# Altium integrated library HARTING DIN 41612 Type B.IntLib: 28 symbols
Pins are listed as number, name and electrical type; pins without a type are passive.

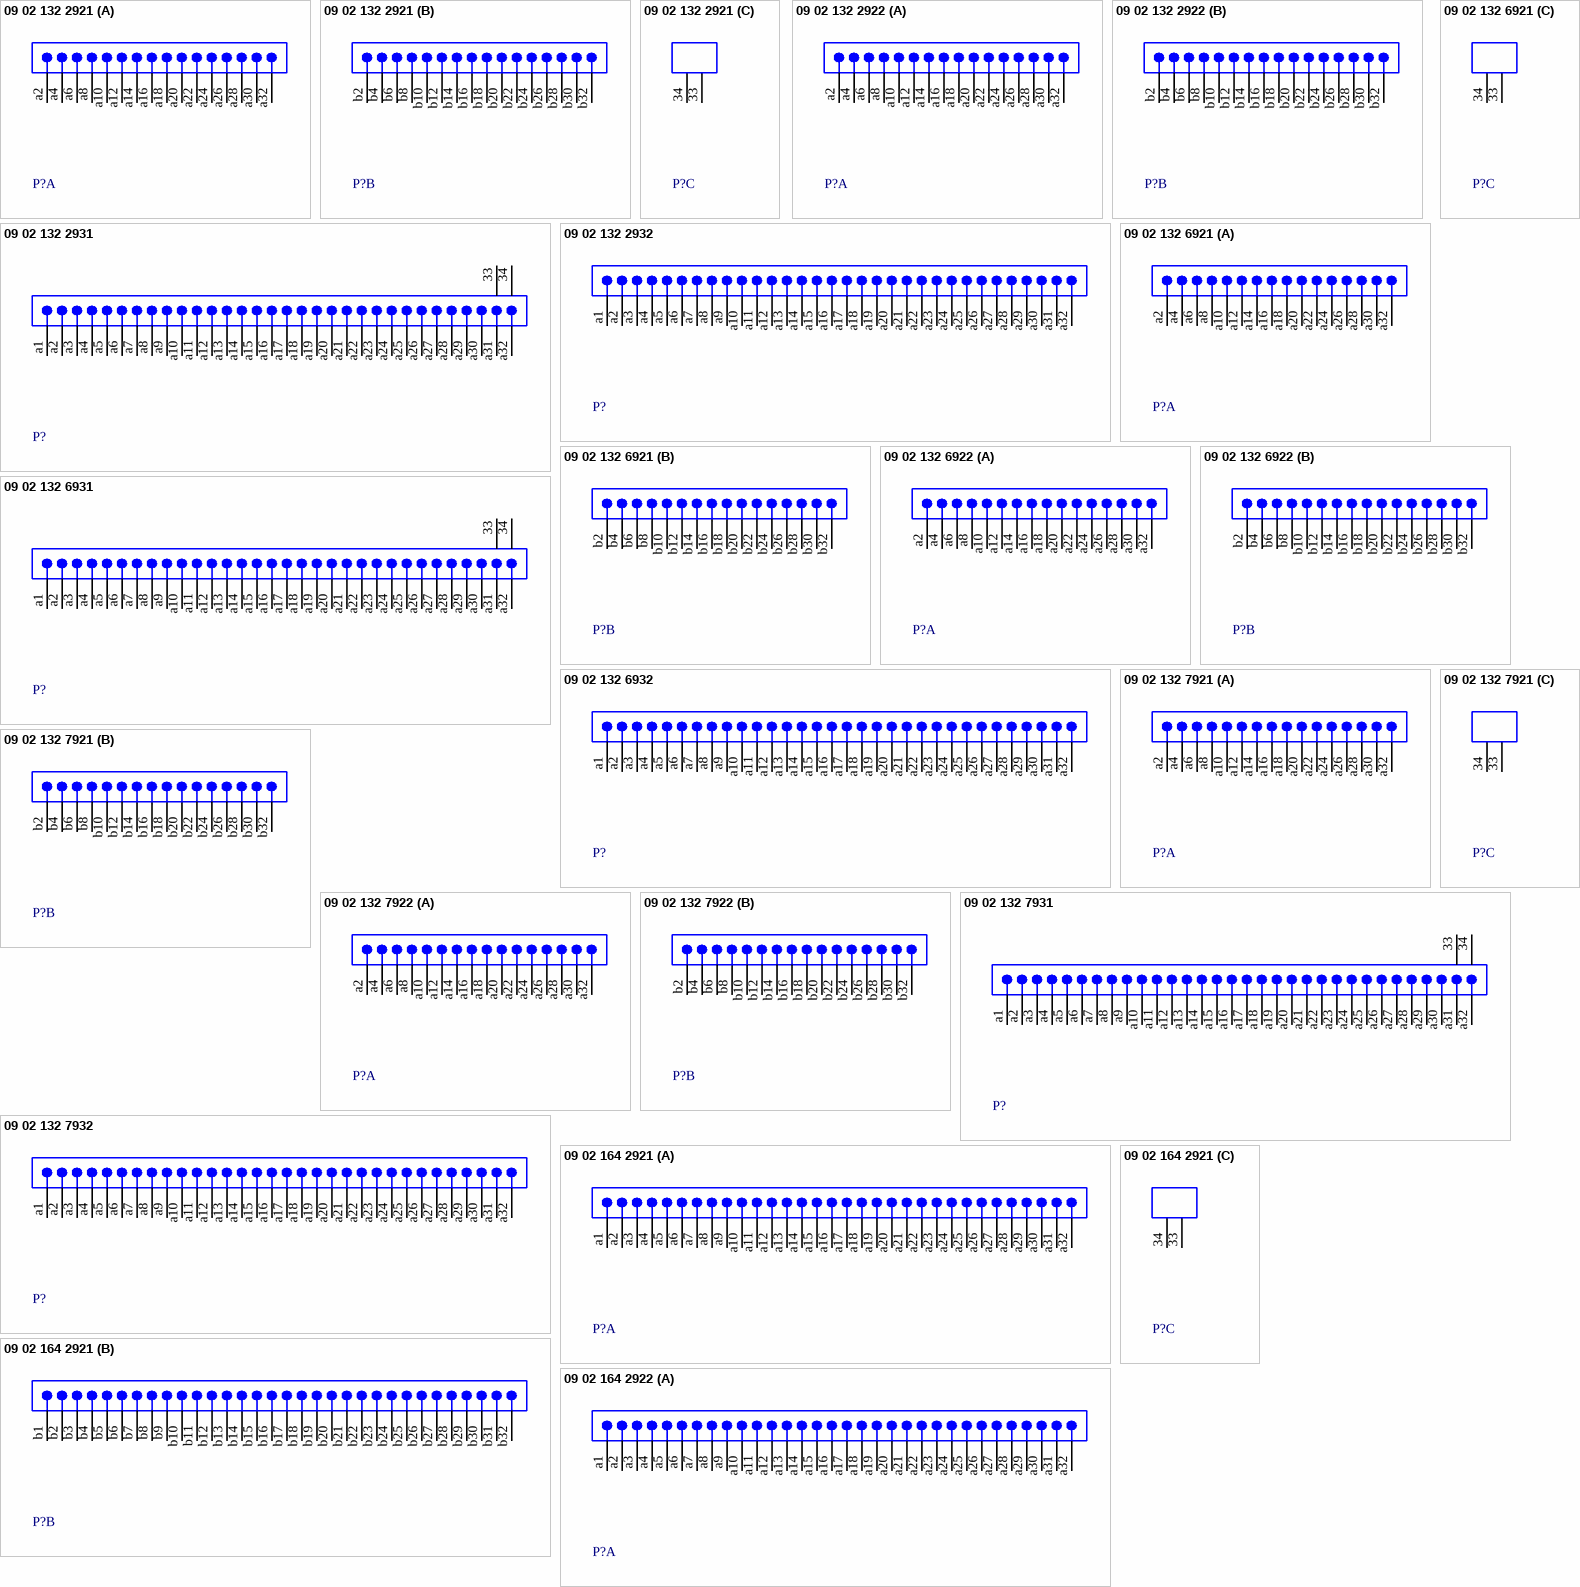
[diagram p0: symbols 09 02 132 2921 to 09 02 164 2922]

## 09 02 132 2921
designator P?
Eurocard DIN 41612, Type B, 32 Position, Rows a+b, Performance level 1, Male, Lead 3.0 mm, Pitch 2.54 mm; DrillSize: Corresponds to nominal value.; Published: 6-Oct-2005; DatasheetDocument: 02-Jun-2003; PackageDocument: 11-Jul-2000; PackageReference: 0902132x921; Publisher: Altium Limited; ComponentLink1Description: Manufacturer Link; ComponentLink1URL: http://www.harting.com/; ComponentLink2Description: Pinout Specification; ComponentLink2URL: 0902132x921; ComponentLink3Description: Packaging Specification; ComponentLink3URL: http://www.harkis.harting.com/_gds/pdf/TB_0902132x921_BL01_R28027.pdf
footprint 0902132x921 (Connector; DIN 41612, Type B, Thru-Hole; Rows a+b, 32 Position; Right Angle)
signal-integrity model DIN 41612
part A pins: a2, a4, a6, a8, a10, a12, a14, a16, a18, a20, a22, a24, a26, a28, a30, a32
part B pins: b2, b4, b6, b8, b10, b12, b14, b16, b18, b20, b22, b24, b26, b28, b30, b32
part C pins: 33 MH1 "Mounting Fixture", 34 MH2 "Mounting Fixture"

## 09 02 132 2922
designator P?
Eurocard DIN 41612, Type B, 32 Position, Rows a+b, Performance level 1, Male, Lead 3.0 mm, Pitch 2.54 mm; DrillSize: Corresponds to nominal value.; Published: 6-Oct-2005; DatasheetDocument: 02-Jun-2003; PackageDocument: 24-Jul-2000; PackageReference: 0902132x922; Publisher: Altium Limited; ComponentLink1Description: Manufacturer Link; ComponentLink1URL: http://www.harting.com/; ComponentLink2Description: Pinout Specification; ComponentLink2URL: 0902132x922; ComponentLink3Description: Packaging Specification; ComponentLink3URL: http://www.harkis.harting.com/_gds/pdf/TB_0902132x922_BL01_R28028.pdf
footprint 0902132x922 (Connector; DIN 41612, Type B, Thru-Hole; Rows a+b, 32 Position; Vertical, No Mounting Fixture)
signal-integrity model DIN 41612
part A pins: a2, a4, a6, a8, a10, a12, a14, a16, a18, a20, a22, a24, a26, a28, a30, a32
part B pins: b2, b4, b6, b8, b10, b12, b14, b16, b18, b20, b22, b24, b26, b28, b30, b32

## 09 02 132 2931
designator P?
Eurocard DIN 41612, Type B, 32 Position, Row a, Performance level 1, Male, Lead 3.0 mm, Pitch 2.54 mm; DrillSize: Corresponds to nominal value.; Published: 6-Oct-2005; DatasheetDocument: 02-Jun-2003; PackageDocument: 11-Jul-2000; PackageReference: 0902132x931; Publisher: Altium Limited; ComponentLink1Description: Manufacturer Link; ComponentLink1URL: http://www.harting.com/; ComponentLink2Description: Pinout Specification; ComponentLink2URL: 0902132x931; ComponentLink3Description: Packaging Specification; ComponentLink3URL: http://www.harkis.harting.com/_gds/pdf/TB_0902132x931_BL01_R28027.pdf
footprint 0902132x931 (Connector; DIN 41612, Type B, Thru-Hole; Row a, 32 Position; Right Angle)
signal-integrity model DIN 41612
pins: 33 MH1 "Mounting Fixture", 34 MH2 "Mounting Fixture", a1, a2, a3, a4, a5, a6, a7, a8, a9, a10, a11, a12, a13, a14, a15, a16, a17, a18, a19, a20, a21, a22, a23, a24, a25, a26, a27, a28, a29, a30, a31, a32

## 09 02 132 2932
designator P?
Eurocard DIN 41612, Type B, 32 Position, Row a, Performance level 1, Male, Lead 3.0 mm, Pitch 2.54 mm; DrillSize: Corresponds to nominal value.; Published: 6-Oct-2005; DatasheetDocument: 02-Jun-2003; PackageDocument: 24-Jul-2000; PackageReference: 0902132x932; Publisher: Altium Limited; ComponentLink1Description: Manufacturer Link; ComponentLink1URL: http://www.harting.com/; ComponentLink2Description: Pinout Specification; ComponentLink2URL: 0902132x932; ComponentLink3Description: Packaging Specification; ComponentLink3URL: http://www.harkis.harting.com/_gds/pdf/TB_0902132x932_BL01_R28028.pdf
footprint 0902132x932 (Connector; DIN 41612, Type B, Thru-Hole; Row a, 32 Position; Vertical, No Mounting Fixture)
signal-integrity model DIN 41612
pins: a1, a2, a3, a4, a5, a6, a7, a8, a9, a10, a11, a12, a13, a14, a15, a16, a17, a18, a19, a20, a21, a22, a23, a24, a25, a26, a27, a28, a29, a30, a31, a32

## 09 02 132 6921
designator P?
Eurocard DIN 41612, Type B, 32 Position, Rows a+b, Performance level 2, Male, Lead 3.0 mm, Pitch 2.54 mm; DrillSize: Corresponds to nominal value.; Published: 6-Oct-2005; DatasheetDocument: 02-Jun-2003; PackageDocument: 11-Jul-2000; PackageReference: 0902132x921; Publisher: Altium Limited; ComponentLink1Description: Manufacturer Link; ComponentLink1URL: http://www.harting.com/; ComponentLink2Description: Pinout Specification; ComponentLink2URL: 0902132x921; ComponentLink3Description: Packaging Specification; ComponentLink3URL: http://www.harkis.harting.com/_gds/pdf/TB_0902132x921_BL01_R28027.pdf
footprint 0902132x921 (Connector; DIN 41612, Type B, Thru-Hole; Rows a+b, 32 Position; Right Angle)
signal-integrity model DIN 41612
part A pins: a2, a4, a6, a8, a10, a12, a14, a16, a18, a20, a22, a24, a26, a28, a30, a32
part B pins: b2, b4, b6, b8, b10, b12, b14, b16, b18, b20, b22, b24, b26, b28, b30, b32
part C pins: 33 MH1 "Mounting Fixture", 34 MH2 "Mounting Fixture"

## 09 02 132 6922
designator P?
Eurocard DIN 41612, Type B, 32 Position, Rows a+b, Performance level 2, Male, Lead 3.0 mm, Pitch 2.54 mm; DrillSize: Corresponds to nominal value.; Published: 6-Oct-2005; DatasheetDocument: 02-Jun-2003; PackageDocument: 24-Jul-2000; PackageReference: 0902132x922; Publisher: Altium Limited; ComponentLink1Description: Manufacturer Link; ComponentLink1URL: http://www.harting.com/; ComponentLink2Description: Pinout Specification; ComponentLink2URL: 0902132x922; ComponentLink3Description: Packaging Specification; ComponentLink3URL: http://www.harkis.harting.com/_gds/pdf/TB_0902132x922_BL01_R28028.pdf
footprint 0902132x922 (Connector; DIN 41612, Type B, Thru-Hole; Rows a+b, 32 Position; Vertical, No Mounting Fixture)
signal-integrity model DIN 41612
part A pins: a2, a4, a6, a8, a10, a12, a14, a16, a18, a20, a22, a24, a26, a28, a30, a32
part B pins: b2, b4, b6, b8, b10, b12, b14, b16, b18, b20, b22, b24, b26, b28, b30, b32

## 09 02 132 6931
designator P?
Eurocard DIN 41612, Type B, 32 Position, Row a, Performance level 2, Male, Lead 3.0 mm, Pitch 2.54 mm; DrillSize: Corresponds to nominal value.; Published: 6-Oct-2005; DatasheetDocument: 02-Jun-2003; PackageDocument: 11-Jul-2000; PackageReference: 0902132x931; Publisher: Altium Limited; ComponentLink1Description: Manufacturer Link; ComponentLink1URL: http://www.harting.com/; ComponentLink2Description: Pinout Specification; ComponentLink2URL: 0902132x931; ComponentLink3Description: Packaging Specification; ComponentLink3URL: http://www.harkis.harting.com/_gds/pdf/TB_0902132x931_BL01_R28027.pdf
footprint 0902132x931 (Connector; DIN 41612, Type B, Thru-Hole; Row a, 32 Position; Right Angle)
signal-integrity model DIN 41612
pins: 33 MH1 "Mounting Fixture", 34 MH2 "Mounting Fixture", a1, a2, a3, a4, a5, a6, a7, a8, a9, a10, a11, a12, a13, a14, a15, a16, a17, a18, a19, a20, a21, a22, a23, a24, a25, a26, a27, a28, a29, a30, a31, a32

## 09 02 132 6932
designator P?
Eurocard DIN 41612, Type B, 32 Position, Row a, Performance level 2, Male, Lead 3.0 mm, Pitch 2.54 mm; DrillSize: Corresponds to nominal value.; Published: 6-Oct-2005; DatasheetDocument: 02-Jun-2003; PackageDocument: 24-Jul-2000; PackageReference: 0902132x932; Publisher: Altium Limited; ComponentLink1Description: Manufacturer Link; ComponentLink1URL: http://www.harting.com/; ComponentLink2Description: Pinout Specification; ComponentLink2URL: 0902132x932; ComponentLink3Description: Packaging Specification; ComponentLink3URL: http://www.harkis.harting.com/_gds/pdf/TB_0902132x932_BL01_R28028.pdf
footprint 0902132x932 (Connector; DIN 41612, Type B, Thru-Hole; Row a, 32 Position; Vertical, No Mounting Fixture)
signal-integrity model DIN 41612
pins: a1, a2, a3, a4, a5, a6, a7, a8, a9, a10, a11, a12, a13, a14, a15, a16, a17, a18, a19, a20, a21, a22, a23, a24, a25, a26, a27, a28, a29, a30, a31, a32

## 09 02 132 7921
designator P?
Eurocard DIN 41612, Type B, 32 Position, Rows a+b, Performance level 3, Male, Lead 3.0 mm, Pitch 2.54 mm; DrillSize: Corresponds to nominal value.; Published: 6-Oct-2005; DatasheetDocument: 02-Jun-2003; PackageDocument: 11-Jul-2000; PackageReference: 0902132x921; Publisher: Altium Limited; ComponentLink1Description: Manufacturer Link; ComponentLink1URL: http://www.harting.com/; ComponentLink2Description: Pinout Specification; ComponentLink2URL: 0902132x921; ComponentLink3Description: Packaging Specification; ComponentLink3URL: http://www.harkis.harting.com/_gds/pdf/TB_0902132x921_BL01_R28027.pdf
footprint 0902132x921 (Connector; DIN 41612, Type B, Thru-Hole; Rows a+b, 32 Position; Right Angle)
signal-integrity model DIN 41612
part A pins: a2, a4, a6, a8, a10, a12, a14, a16, a18, a20, a22, a24, a26, a28, a30, a32
part B pins: b2, b4, b6, b8, b10, b12, b14, b16, b18, b20, b22, b24, b26, b28, b30, b32
part C pins: 33 MH1 "Mounting Fixture", 34 MH2 "Mounting Fixture"

## 09 02 132 7922
designator P?
Eurocard DIN 41612, Type B, 32 Position, Rows a+b, Performance level 3, Male, Lead 3.0 mm, Pitch 2.54 mm; DrillSize: Corresponds to nominal value.; Published: 6-Oct-2005; DatasheetDocument: 02-Jun-2003; PackageDocument: 24-Jul-2000; PackageReference: 0902132x922; Publisher: Altium Limited; ComponentLink1Description: Manufacturer Link; ComponentLink1URL: http://www.harting.com/; ComponentLink2Description: Pinout Specification; ComponentLink2URL: 0902132x922; ComponentLink3Description: Packaging Specification; ComponentLink3URL: http://www.harkis.harting.com/_gds/pdf/TB_0902132x922_BL01_R28028.pdf
footprint 0902132x922 (Connector; DIN 41612, Type B, Thru-Hole; Rows a+b, 32 Position; Vertical, No Mounting Fixture)
signal-integrity model DIN 41612
part A pins: a2, a4, a6, a8, a10, a12, a14, a16, a18, a20, a22, a24, a26, a28, a30, a32
part B pins: b2, b4, b6, b8, b10, b12, b14, b16, b18, b20, b22, b24, b26, b28, b30, b32

## 09 02 132 7931
designator P?
Eurocard DIN 41612, Type B, 32 Position, Row a, Performance level 3, Male, Lead 3.0 mm, Pitch 2.54 mm; DrillSize: Corresponds to nominal value.; Published: 6-Oct-2005; DatasheetDocument: 02-Jun-2003; PackageDocument: 11-Jul-2000; PackageReference: 0902132x931; Publisher: Altium Limited; ComponentLink1Description: Manufacturer Link; ComponentLink1URL: http://www.harting.com/; ComponentLink2Description: Pinout Specification; ComponentLink2URL: 0902132x931; ComponentLink3Description: Packaging Specification; ComponentLink3URL: http://www.harkis.harting.com/_gds/pdf/TB_0902132x931_BL01_R28027.pdf
footprint 0902132x931 (Connector; DIN 41612, Type B, Thru-Hole; Row a, 32 Position; Right Angle)
signal-integrity model DIN 41612
pins: 33 MH1 "Mounting Fixture", 34 MH2 "Mounting Fixture", a1, a2, a3, a4, a5, a6, a7, a8, a9, a10, a11, a12, a13, a14, a15, a16, a17, a18, a19, a20, a21, a22, a23, a24, a25, a26, a27, a28, a29, a30, a31, a32

## 09 02 132 7932
designator P?
Eurocard DIN 41612, Type B, 32 Position, Row a, Performance level 3, Male, Lead 3.0 mm, Pitch 2.54 mm; DrillSize: Corresponds to nominal value.; Published: 6-Oct-2005; DatasheetDocument: 02-Jun-2003; PackageDocument: 24-Jul-2000; PackageReference: 0902132x932; Publisher: Altium Limited; ComponentLink1Description: Manufacturer Link; ComponentLink1URL: http://www.harting.com/; ComponentLink2Description: Pinout Specification; ComponentLink2URL: 0902132x932; ComponentLink3Description: Packaging Specification; ComponentLink3URL: http://www.harkis.harting.com/_gds/pdf/TB_0902132x932_BL01_R28028.pdf
footprint 0902132x932 (Connector; DIN 41612, Type B, Thru-Hole; Row a, 32 Position; Vertical, No Mounting Fixture)
signal-integrity model DIN 41612
pins: a1, a2, a3, a4, a5, a6, a7, a8, a9, a10, a11, a12, a13, a14, a15, a16, a17, a18, a19, a20, a21, a22, a23, a24, a25, a26, a27, a28, a29, a30, a31, a32

## 09 02 164 2921
designator P?
Eurocard DIN 41612, Type B, 64 Position, Rows a+b, Performance level 1, Male, Lead 3.0 mm, Pitch 2.54 mm; DrillSize: Corresponds to nominal value.; Published: 6-Oct-2005; DatasheetDocument: 02-Jun-2003; PackageDocument: 21-Jun-2000; PackageReference: 0902164x921; Publisher: Altium Limited; ComponentLink1Description: Manufacturer Link; ComponentLink1URL: http://www.harting.com/; ComponentLink2Description: Pinout Specification; ComponentLink2URL: 0902164x921; ComponentLink3Description: Packaging Specification; ComponentLink3URL: http://www.harkis.harting.com/_gds/pdf/TB_0902164x921_BL01_R28027.pdf
footprint 0902164x921 (Connector; DIN 41612, Type B, Thru-Hole; Rows a+b, 64 Position; Right Angle)
signal-integrity model DIN 41612
part A pins: a1, a2, a3, a4, a5, a6, a7, a8, a9, a10, a11, a12, a13, a14, a15, a16, a17, a18, a19, a20, a21, a22, a23, a24, a25, a26, a27, a28, a29, a30, a31, a32
part B pins: b1, b2, b3, b4, b5, b6, b7, b8, b9, b10, b11, b12, b13, b14, b15, b16, b17, b18, b19, b20, b21, b22, b23, b24, b25, b26, b27, b28, b29, b30, b31, b32
part C pins: 33 MH1 "Mounting Fixture", 34 MH2 "Mounting Fixture"

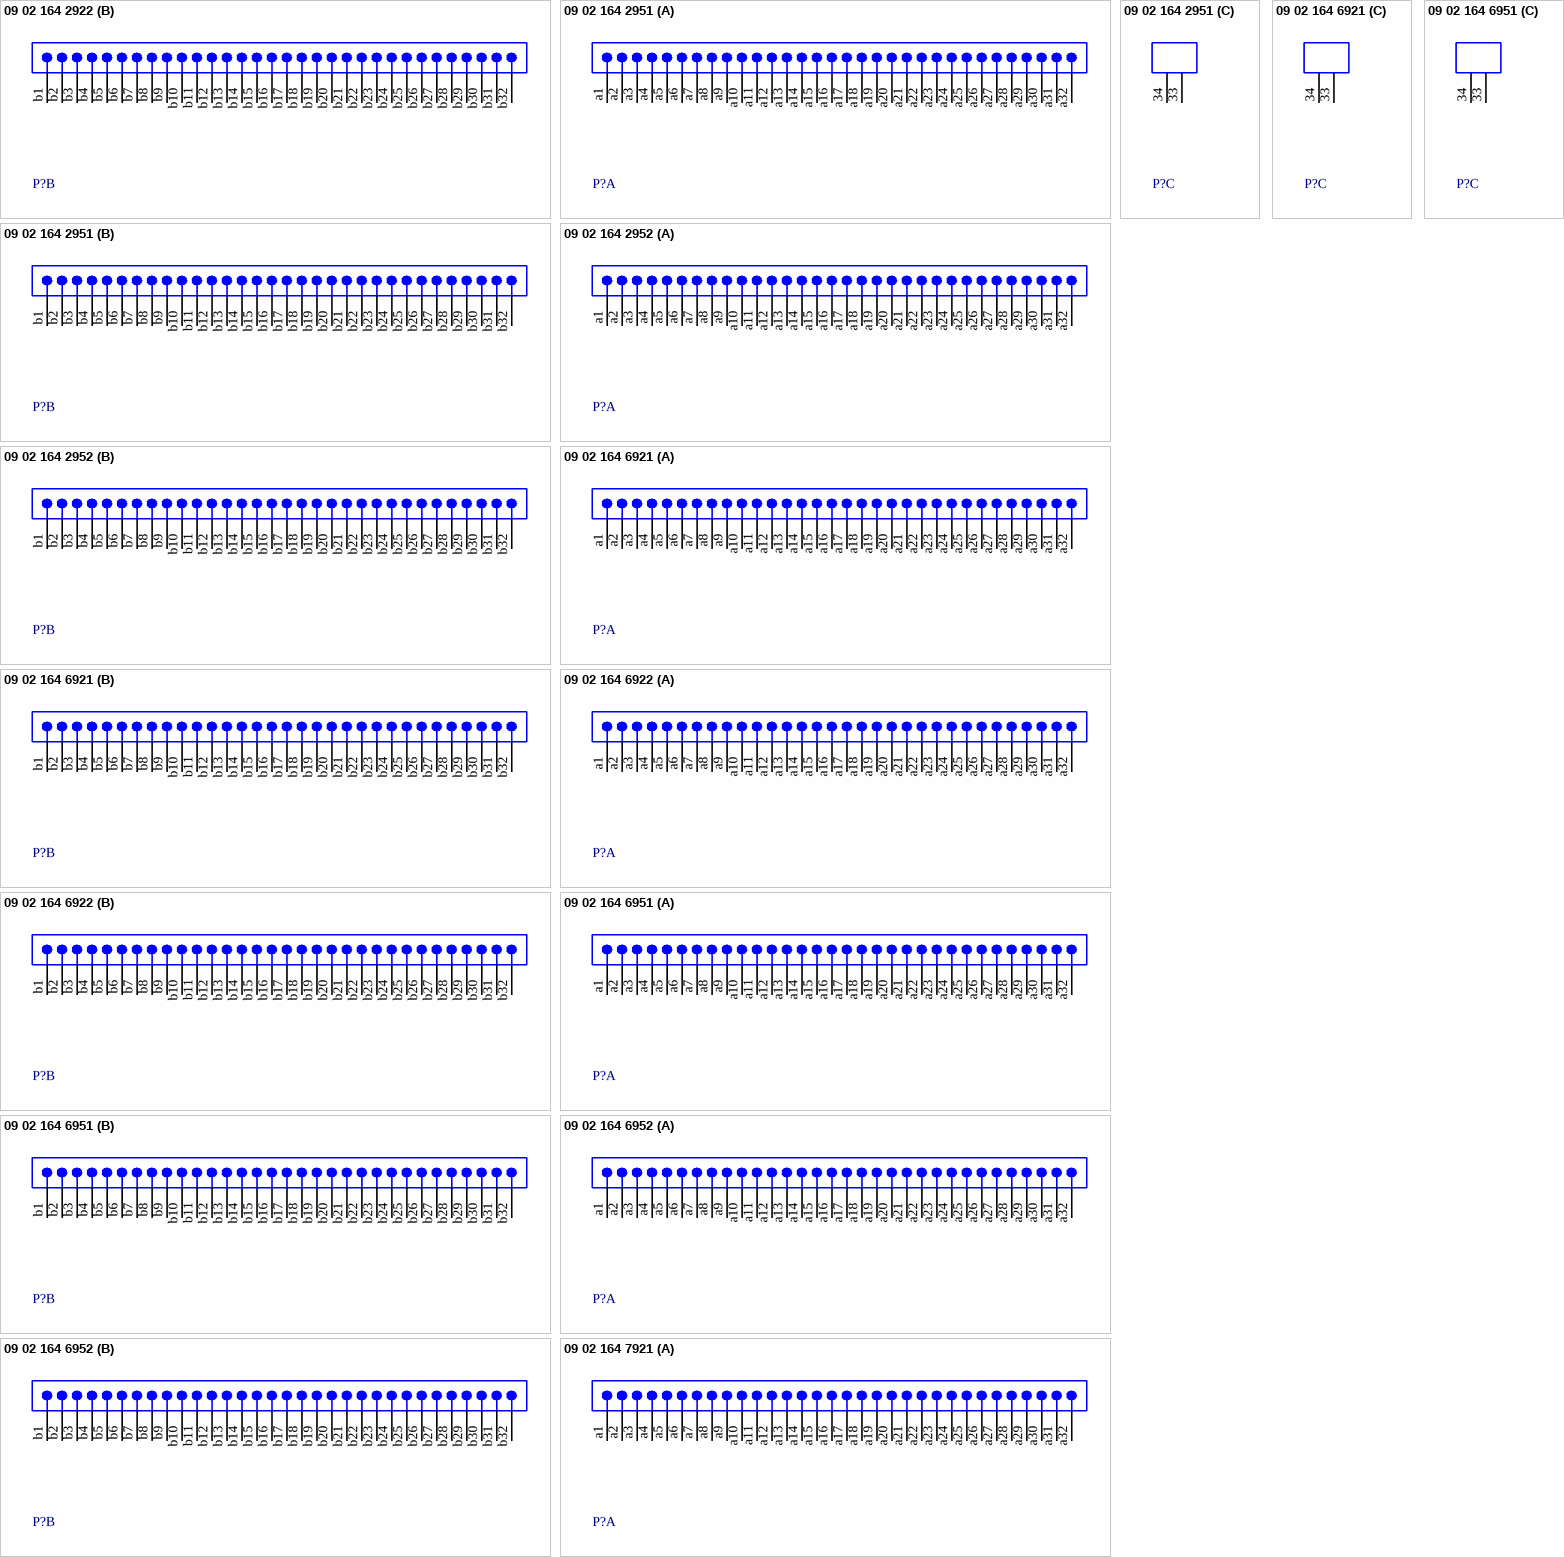
[diagram p1: symbols 09 02 164 2922 to 09 02 164 7921]

## 09 02 164 2922
designator P?
Eurocard DIN 41612, Type B, 64 Position, Rows a+b, Performance level 1, Male, Lead 3.0 mm, Pitch 2.54 mm; DrillSize: Corresponds to nominal value.; Published: 6-Oct-2005; DatasheetDocument: 02-Jun-2003; PackageDocument: 21-Jul-2000; PackageReference: 0902164x922; Publisher: Altium Limited; ComponentLink1Description: Manufacturer Link; ComponentLink1URL: http://www.harting.com/; ComponentLink2Description: Pinout Specification; ComponentLink2URL: 0902164x922; ComponentLink3Description: Packaging Specification; ComponentLink3URL: http://www.harkis.harting.com/_gds/pdf/TB_0902164x922_BL01_R28028.pdf
footprint 0902164x922 (Connector; DIN 41612, Type B, Thru-Hole; Rows a+b, 64 Position; Vertical, No Mounting Fixture)
signal-integrity model DIN 41612
part A pins: a1, a2, a3, a4, a5, a6, a7, a8, a9, a10, a11, a12, a13, a14, a15, a16, a17, a18, a19, a20, a21, a22, a23, a24, a25, a26, a27, a28, a29, a30, a31, a32
part B pins: b1, b2, b3, b4, b5, b6, b7, b8, b9, b10, b11, b12, b13, b14, b15, b16, b17, b18, b19, b20, b21, b22, b23, b24, b25, b26, b27, b28, b29, b30, b31, b32

## 09 02 164 2951
designator P?
Eurocard DIN 41612, Type B, 62+2 Position, Rows a+b, Performance level 1, Male, Lead 3.0 mm, Pitch 2.54 mm; Note: Two leading contacts at positions a1 & a32.; DrillSize: Corresponds to nominal value.; Published: 6-Oct-2005; DatasheetDocument: 02-Jun-2003; PackageDocument: 17-Jul-2000; PackageReference: 0902164x951; Publisher: Altium Limited; ComponentLink1Description: Manufacturer Link; ComponentLink1URL: http://www.harting.com/; ComponentLink2Description: Pinout Specification; ComponentLink2URL: 0902164x951; ComponentLink3Description: Packaging Specification; ComponentLink3URL: http://www.harkis.harting.com/_gds/pdf/TB_0902164x951_BL01_R28027.pdf
footprint 0902164x951 (Connector; DIN 41612, Type B, Thru-Hole; Rows a+b, 64 Position; Right Angle)
signal-integrity model DIN 41612
part A pins: a1, a2, a3, a4, a5, a6, a7, a8, a9, a10, a11, a12, a13, a14, a15, a16, a17, a18, a19, a20, a21, a22, a23, a24, a25, a26, a27, a28, a29, a30, a31, a32
part B pins: b1, b2, b3, b4, b5, b6, b7, b8, b9, b10, b11, b12, b13, b14, b15, b16, b17, b18, b19, b20, b21, b22, b23, b24, b25, b26, b27, b28, b29, b30, b31, b32
part C pins: 33 MH1 "Mounting Fixture", 34 MH2 "Mounting Fixture"

## 09 02 164 2952
designator P?
Eurocard DIN 41612, Type B, 62+2 Position, Rows a+b, Performance level 1, Male, Lead 3.0 mm, Pitch 2.54 mm; Note: Two leading contacts at positions a1 & a32.; DrillSize: Corresponds to nominal value.; Published: 6-Oct-2005; DatasheetDocument: 02-Jun-2003; PackageDocument: 03-Jun-2002; PackageReference: 0902164x952; Publisher: Altium Limited; ComponentLink1Description: Manufacturer Link; ComponentLink1URL: http://www.harting.com/; ComponentLink2Description: Pinout Specification; ComponentLink2URL: 0902164x952; ComponentLink3Description: Packaging Specification; ComponentLink3URL: http://www.harkis.harting.com/_gds/pdf/TB_0902164x952_BL01_R31035.pdf
footprint 0902164x952 (Connector; DIN 41612, Type B, Thru-Hole; Rows a+b, 64 Position; Vertical, No Mounting Fixture)
signal-integrity model DIN 41612
part A pins: a1, a2, a3, a4, a5, a6, a7, a8, a9, a10, a11, a12, a13, a14, a15, a16, a17, a18, a19, a20, a21, a22, a23, a24, a25, a26, a27, a28, a29, a30, a31, a32
part B pins: b1, b2, b3, b4, b5, b6, b7, b8, b9, b10, b11, b12, b13, b14, b15, b16, b17, b18, b19, b20, b21, b22, b23, b24, b25, b26, b27, b28, b29, b30, b31, b32

## 09 02 164 6921
designator P?
Eurocard DIN 41612, Type B, 64 Position, Rows a+b, Performance level 2, Male, Lead 3.0 mm, Pitch 2.54 mm; DrillSize: Corresponds to nominal value.; Published: 6-Oct-2005; DatasheetDocument: 02-Jun-2003; PackageDocument: 21-Jun-2000; PackageReference: 0902164x921; Publisher: Altium Limited; ComponentLink1Description: Manufacturer Link; ComponentLink1URL: http://www.harting.com/; ComponentLink2Description: Pinout Specification; ComponentLink2URL: 0902164x921; ComponentLink3Description: Packaging Specification; ComponentLink3URL: http://www.harkis.harting.com/_gds/pdf/TB_0902164x921_BL01_R28027.pdf
footprint 0902164x921 (Connector; DIN 41612, Type B, Thru-Hole; Rows a+b, 64 Position; Right Angle)
signal-integrity model DIN 41612
part A pins: a1, a2, a3, a4, a5, a6, a7, a8, a9, a10, a11, a12, a13, a14, a15, a16, a17, a18, a19, a20, a21, a22, a23, a24, a25, a26, a27, a28, a29, a30, a31, a32
part B pins: b1, b2, b3, b4, b5, b6, b7, b8, b9, b10, b11, b12, b13, b14, b15, b16, b17, b18, b19, b20, b21, b22, b23, b24, b25, b26, b27, b28, b29, b30, b31, b32
part C pins: 33 MH1 "Mounting Fixture", 34 MH2 "Mounting Fixture"

## 09 02 164 6922
designator P?
Eurocard DIN 41612, Type B, 64 Position, Rows a+b, Performance level 2, Male, Lead 3.0 mm, Pitch 2.54 mm; DrillSize: Corresponds to nominal value.; Published: 6-Oct-2005; DatasheetDocument: 02-Jun-2003; PackageDocument: 21-Jul-2000; PackageReference: 0902164x922; Publisher: Altium Limited; ComponentLink1Description: Manufacturer Link; ComponentLink1URL: http://www.harting.com/; ComponentLink2Description: Pinout Specification; ComponentLink2URL: 0902164x922; ComponentLink3Description: Packaging Specification; ComponentLink3URL: http://www.harkis.harting.com/_gds/pdf/TB_0902164x922_BL01_R28028.pdf
footprint 0902164x922 (Connector; DIN 41612, Type B, Thru-Hole; Rows a+b, 64 Position; Vertical, No Mounting Fixture)
signal-integrity model DIN 41612
part A pins: a1, a2, a3, a4, a5, a6, a7, a8, a9, a10, a11, a12, a13, a14, a15, a16, a17, a18, a19, a20, a21, a22, a23, a24, a25, a26, a27, a28, a29, a30, a31, a32
part B pins: b1, b2, b3, b4, b5, b6, b7, b8, b9, b10, b11, b12, b13, b14, b15, b16, b17, b18, b19, b20, b21, b22, b23, b24, b25, b26, b27, b28, b29, b30, b31, b32

## 09 02 164 6951
designator P?
Eurocard DIN 41612, Type B, 62+2 Position, Rows a+b, Performance level 2, Male, Lead 3.0 mm, Pitch 2.54 mm; Note: Two leading contacts at positions a1 & a32.; DrillSize: Corresponds to nominal value.; Published: 6-Oct-2005; DatasheetDocument: 02-Jun-2003; PackageDocument: 17-Jul-2000; PackageReference: 0902164x951; Publisher: Altium Limited; ComponentLink1Description: Manufacturer Link; ComponentLink1URL: http://www.harting.com/; ComponentLink2Description: Pinout Specification; ComponentLink2URL: 0902164x951; ComponentLink3Description: Packaging Specification; ComponentLink3URL: http://www.harkis.harting.com/_gds/pdf/TB_0902164x951_BL01_R28027.pdf
footprint 0902164x951 (Connector; DIN 41612, Type B, Thru-Hole; Rows a+b, 64 Position; Right Angle)
signal-integrity model DIN 41612
part A pins: a1, a2, a3, a4, a5, a6, a7, a8, a9, a10, a11, a12, a13, a14, a15, a16, a17, a18, a19, a20, a21, a22, a23, a24, a25, a26, a27, a28, a29, a30, a31, a32
part B pins: b1, b2, b3, b4, b5, b6, b7, b8, b9, b10, b11, b12, b13, b14, b15, b16, b17, b18, b19, b20, b21, b22, b23, b24, b25, b26, b27, b28, b29, b30, b31, b32
part C pins: 33 MH1 "Mounting Fixture", 34 MH2 "Mounting Fixture"

## 09 02 164 6952
designator P?
Eurocard DIN 41612, Type B, 62+2 Position, Rows a+b, Performance level 2, Male, Lead 3.0 mm, Pitch 2.54 mm; Note: Two leading contacts at positions a1 & a32.; DrillSize: Corresponds to nominal value.; Published: 6-Oct-2005; DatasheetDocument: 02-Jun-2003; PackageDocument: 03-Jun-2002; PackageReference: 0902164x952; Publisher: Altium Limited; ComponentLink1Description: Manufacturer Link; ComponentLink1URL: http://www.harting.com/; ComponentLink2Description: Pinout Specification; ComponentLink2URL: 0902164x952; ComponentLink3Description: Packaging Specification; ComponentLink3URL: http://www.harkis.harting.com/_gds/pdf/TB_0902164x952_BL01_R31035.pdf
footprint 0902164x952 (Connector; DIN 41612, Type B, Thru-Hole; Rows a+b, 64 Position; Vertical, No Mounting Fixture)
signal-integrity model DIN 41612
part A pins: a1, a2, a3, a4, a5, a6, a7, a8, a9, a10, a11, a12, a13, a14, a15, a16, a17, a18, a19, a20, a21, a22, a23, a24, a25, a26, a27, a28, a29, a30, a31, a32
part B pins: b1, b2, b3, b4, b5, b6, b7, b8, b9, b10, b11, b12, b13, b14, b15, b16, b17, b18, b19, b20, b21, b22, b23, b24, b25, b26, b27, b28, b29, b30, b31, b32

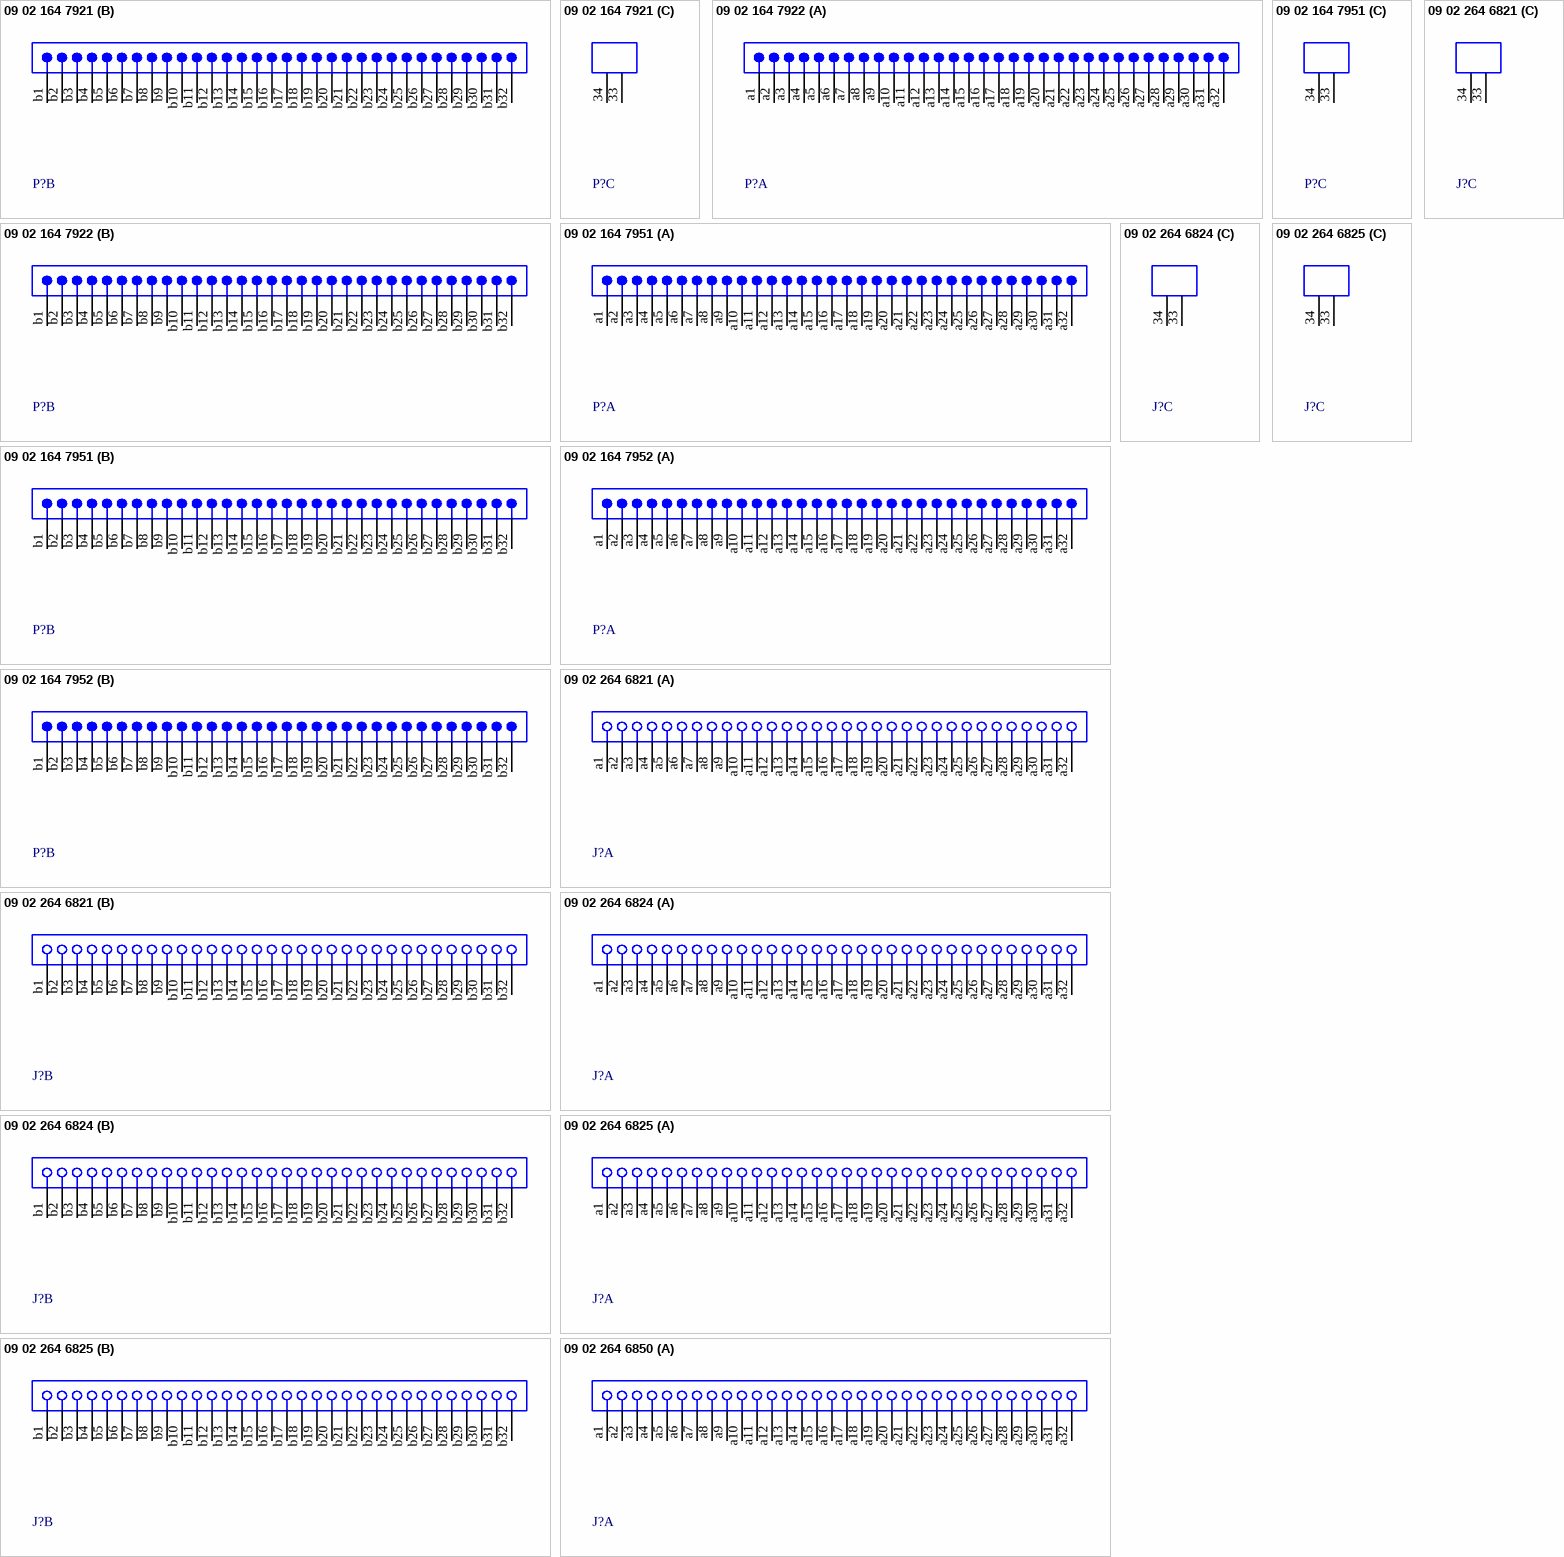
[diagram p2: symbols 09 02 164 7921 to 09 02 264 6850]

## 09 02 164 7921
designator P?
Eurocard DIN 41612, Type B, 64 Position, Rows a+b, Performance level 3, Male, Lead 3.0 mm, Pitch 2.54 mm; DrillSize: Corresponds to nominal value.; Published: 6-Oct-2005; DatasheetDocument: 02-Jun-2003; PackageDocument: 21-Jun-2000; PackageReference: 0902164x921; Publisher: Altium Limited; ComponentLink1Description: Manufacturer Link; ComponentLink1URL: http://www.harting.com/; ComponentLink2Description: Pinout Specification; ComponentLink2URL: 0902164x921; ComponentLink3Description: Packaging Specification; ComponentLink3URL: http://www.harkis.harting.com/_gds/pdf/TB_0902164x921_BL01_R28027.pdf
footprint 0902164x921 (Connector; DIN 41612, Type B, Thru-Hole; Rows a+b, 64 Position; Right Angle)
signal-integrity model DIN 41612
part A pins: a1, a2, a3, a4, a5, a6, a7, a8, a9, a10, a11, a12, a13, a14, a15, a16, a17, a18, a19, a20, a21, a22, a23, a24, a25, a26, a27, a28, a29, a30, a31, a32
part B pins: b1, b2, b3, b4, b5, b6, b7, b8, b9, b10, b11, b12, b13, b14, b15, b16, b17, b18, b19, b20, b21, b22, b23, b24, b25, b26, b27, b28, b29, b30, b31, b32
part C pins: 33 MH1 "Mounting Fixture", 34 MH2 "Mounting Fixture"

## 09 02 164 7922
designator P?
Eurocard DIN 41612, Type B, 64 Position, Rows a+b, Performance level 3, Male, Lead 3.0 mm, Pitch 2.54 mm; DrillSize: Corresponds to nominal value.; Published: 6-Oct-2005; DatasheetDocument: 02-Jun-2003; PackageDocument: 21-Jul-2000; PackageReference: 0902164x922; Publisher: Altium Limited; ComponentLink1Description: Manufacturer Link; ComponentLink1URL: http://www.harting.com/; ComponentLink2Description: Pinout Specification; ComponentLink2URL: 0902164x922; ComponentLink3Description: Packaging Specification; ComponentLink3URL: http://www.harkis.harting.com/_gds/pdf/TB_0902164x922_BL01_R28028.pdf
footprint 0902164x922 (Connector; DIN 41612, Type B, Thru-Hole; Rows a+b, 64 Position; Vertical, No Mounting Fixture)
signal-integrity model DIN 41612
part A pins: a1, a2, a3, a4, a5, a6, a7, a8, a9, a10, a11, a12, a13, a14, a15, a16, a17, a18, a19, a20, a21, a22, a23, a24, a25, a26, a27, a28, a29, a30, a31, a32
part B pins: b1, b2, b3, b4, b5, b6, b7, b8, b9, b10, b11, b12, b13, b14, b15, b16, b17, b18, b19, b20, b21, b22, b23, b24, b25, b26, b27, b28, b29, b30, b31, b32

## 09 02 164 7951
designator P?
Eurocard DIN 41612, Type B, 62+2 Position, Rows a+b, Performance level 3, Male, Lead 3.0 mm, Pitch 2.54 mm; Note: Two leading contacts at positions a1 & a32.; DrillSize: Corresponds to nominal value.; Published: 6-Oct-2005; DatasheetDocument: 02-Jun-2003; PackageDocument: 17-Jul-2000; PackageReference: 0902164x951; Publisher: Altium Limited; ComponentLink1Description: Manufacturer Link; ComponentLink1URL: http://www.harting.com/; ComponentLink2Description: Pinout Specification; ComponentLink2URL: 0902164x951; ComponentLink3Description: Packaging Specification; ComponentLink3URL: http://www.harkis.harting.com/_gds/pdf/TB_0902164x951_BL01_R28027.pdf
footprint 0902164x951 (Connector; DIN 41612, Type B, Thru-Hole; Rows a+b, 64 Position; Right Angle)
signal-integrity model DIN 41612
part A pins: a1, a2, a3, a4, a5, a6, a7, a8, a9, a10, a11, a12, a13, a14, a15, a16, a17, a18, a19, a20, a21, a22, a23, a24, a25, a26, a27, a28, a29, a30, a31, a32
part B pins: b1, b2, b3, b4, b5, b6, b7, b8, b9, b10, b11, b12, b13, b14, b15, b16, b17, b18, b19, b20, b21, b22, b23, b24, b25, b26, b27, b28, b29, b30, b31, b32
part C pins: 33 MH1 "Mounting Fixture", 34 MH2 "Mounting Fixture"

## 09 02 164 7952
designator P?
Eurocard DIN 41612, Type B, 62+2 Position, Rows a+b, Performance level 3, Male, Lead 3.0 mm, Pitch 2.54 mm; Note: Two leading contacts at positions a1 & a32.; DrillSize: Corresponds to nominal value.; Published: 6-Oct-2005; DatasheetDocument: 02-Jun-2003; PackageDocument: 03-Jun-2002; PackageReference: 0902164x952; Publisher: Altium Limited; ComponentLink1Description: Manufacturer Link; ComponentLink1URL: http://www.harting.com/; ComponentLink2Description: Pinout Specification; ComponentLink2URL: 0902164x952; ComponentLink3Description: Packaging Specification; ComponentLink3URL: http://www.harkis.harting.com/_gds/pdf/TB_0902164x952_BL01_R31035.pdf
footprint 0902164x952 (Connector; DIN 41612, Type B, Thru-Hole; Rows a+b, 64 Position; Vertical, No Mounting Fixture)
signal-integrity model DIN 41612
part A pins: a1, a2, a3, a4, a5, a6, a7, a8, a9, a10, a11, a12, a13, a14, a15, a16, a17, a18, a19, a20, a21, a22, a23, a24, a25, a26, a27, a28, a29, a30, a31, a32
part B pins: b1, b2, b3, b4, b5, b6, b7, b8, b9, b10, b11, b12, b13, b14, b15, b16, b17, b18, b19, b20, b21, b22, b23, b24, b25, b26, b27, b28, b29, b30, b31, b32

## 09 02 264 6821
designator J?
Eurocard DIN 41612, Type B, 64 Position, Rows a+b, Performance level 2, Female, Lead 13.0 mm, Pitch 2.54 mm; DrillSize: Corresponds to nominal value.; Published: 6-Oct-2005; DatasheetDocument: 02-Jun-2003; PackageDocument: 12-Oct-1999; PackageReference: 0902264x821; Publisher: Altium Limited; ComponentLink1Description: Manufacturer Link; ComponentLink1URL: http://www.harting.com/; ComponentLink2Description: Packaging Specification; ComponentLink2URL: http://www.harkis.harting.com/_gds/pdf/TB_0902264x821_BL01_R26962.pdf
footprint 0902264x821 (Connector; DIN 41612, Type B, Thru-Hole; Rows a+b, 64 Position; Vertical)
signal-integrity model DIN 41612
part A pins: a1, a2, a3, a4, a5, a6, a7, a8, a9, a10, a11, a12, a13, a14, a15, a16, a17, a18, a19, a20, a21, a22, a23, a24, a25, a26, a27, a28, a29, a30, a31, a32
part B pins: b1, b2, b3, b4, b5, b6, b7, b8, b9, b10, b11, b12, b13, b14, b15, b16, b17, b18, b19, b20, b21, b22, b23, b24, b25, b26, b27, b28, b29, b30, b31, b32
part C pins: 33 MH1 "Mounting Fixture", 34 MH2 "Mounting Fixture"

## 09 02 264 6824
designator J?
Eurocard DIN 41612, Type B, 64 Position, Rows a+b, Performance level 2, Female, Lead 2.9 mm, Pitch 2.54 mm; DrillSize: Corresponds to nominal value.; Published: 6-Oct-2005; DatasheetDocument: 02-Jun-2003; PackageDocument: 12-Oct-1999; PackageReference: 0902264x824; Publisher: Altium Limited; ComponentLink1Description: Manufacturer Link; ComponentLink1URL: http://www.harting.com/; ComponentLink2Description: Packaging Specification; ComponentLink2URL: http://www.harkis.harting.com/_gds/pdf/TB_0902264x824_BL01_R30231.pdf
footprint 0902264x824 (Connector; DIN 41612, Type B, Thru-Hole; Rows a+b, 64 Position; Vertical)
signal-integrity model DIN 41612
part A pins: a1, a2, a3, a4, a5, a6, a7, a8, a9, a10, a11, a12, a13, a14, a15, a16, a17, a18, a19, a20, a21, a22, a23, a24, a25, a26, a27, a28, a29, a30, a31, a32
part B pins: b1, b2, b3, b4, b5, b6, b7, b8, b9, b10, b11, b12, b13, b14, b15, b16, b17, b18, b19, b20, b21, b22, b23, b24, b25, b26, b27, b28, b29, b30, b31, b32
part C pins: 33 MH1 "Mounting Fixture", 34 MH2 "Mounting Fixture"

## 09 02 264 6825
designator J?
Eurocard DIN 41612, Type B, 64 Position, Rows a+b, Performance level 2, Female, Lead 4.5 mm, Pitch 2.54 mm; DrillSize: Corresponds to nominal value.; Published: 6-Oct-2005; DatasheetDocument: 02-Jun-2003; PackageDocument: 12-Oct-1999; PackageReference: 0902264x825; Publisher: Altium Limited; ComponentLink1Description: Manufacturer Link; ComponentLink1URL: http://www.harting.com/; ComponentLink2Description: Packaging Specification; ComponentLink2URL: http://www.harkis.harting.com/_gds/pdf/TB_0902264x825_BL01_R30231.pdf
footprint 0902264x825 (Connector; DIN 41612, Type B, Thru-Hole; Rows a+b, 64 Position; Vertical)
signal-integrity model DIN 41612
part A pins: a1, a2, a3, a4, a5, a6, a7, a8, a9, a10, a11, a12, a13, a14, a15, a16, a17, a18, a19, a20, a21, a22, a23, a24, a25, a26, a27, a28, a29, a30, a31, a32
part B pins: b1, b2, b3, b4, b5, b6, b7, b8, b9, b10, b11, b12, b13, b14, b15, b16, b17, b18, b19, b20, b21, b22, b23, b24, b25, b26, b27, b28, b29, b30, b31, b32
part C pins: 33 MH1 "Mounting Fixture", 34 MH2 "Mounting Fixture"

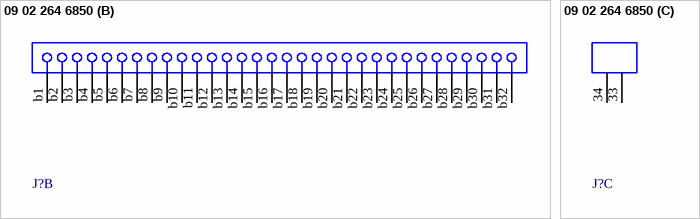
[diagram p3: symbol 09 02 264 6850]

## 09 02 264 6850
designator J?
Eurocard DIN 41612, Type B, 64 Position, Rows a+b, Performance level 2, Female, Lead 4.5 mm, Pitch 2.54 mm; DrillSize: Corresponds to nominal value.; Published: 6-Oct-2005; DatasheetDocument: 03-Jun-2003; PackageDocument: 12-Oct-1999; PackageReference: 0902264x850; Publisher: Altium Limited; ComponentLink1Description: Manufacturer Link; ComponentLink1URL: http://www.harting.com/; ComponentLink2Description: Packaging Specification; ComponentLink2URL: http://www.harkis.harting.com/_gds/pdf/TB_0902264x850_BL01_R30231.pdf
footprint 0902264x850 (Connector; DIN 41612, Type B, Thru-Hole; Rows a+b, 64 Position; Vertical)
signal-integrity model DIN 41612
part A pins: a1, a2, a3, a4, a5, a6, a7, a8, a9, a10, a11, a12, a13, a14, a15, a16, a17, a18, a19, a20, a21, a22, a23, a24, a25, a26, a27, a28, a29, a30, a31, a32
part B pins: b1, b2, b3, b4, b5, b6, b7, b8, b9, b10, b11, b12, b13, b14, b15, b16, b17, b18, b19, b20, b21, b22, b23, b24, b25, b26, b27, b28, b29, b30, b31, b32
part C pins: 33 MH1 "Mounting Fixture", 34 MH2 "Mounting Fixture"